# EAGLE library part OPL-EAGLE-LIBRARY_ADXL335 (library baseboard)
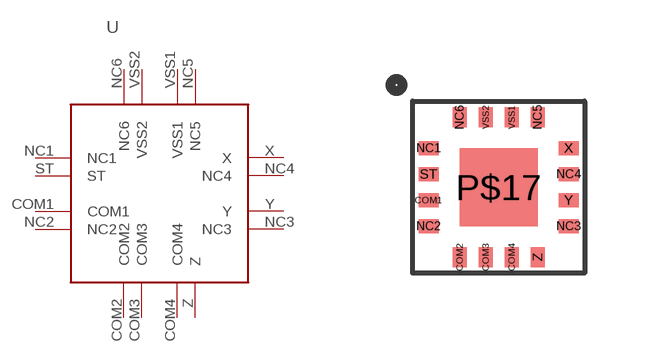
[diagram p0: symbol with the pads of OPL-EAGLE-LIBRARY_ADXL335; footprint OPL-EAGLE-LIBRARY_ADXL335]

Designator prefix U

## OPL-EAGLE-LIBRARY_ADXL335  [OPL-EAGLE-LIBRARY_ADXL335]
COM1  COM1
COM2  COM2
COM3  COM3
COM4  COM4
NC1  NC1
NC2  NC2
NC3  NC3
NC4  NC4
NC5  NC5
NC6  NC6
ST  ST
VSS1  VSS1
VSS2  VSS2
X  X
Y  Y
Z  Z

## Footprint OPL-EAGLE-LIBRARY_ADXL335 (pad centres in mm)
smd 0.5 x 0.35: COM1 -1.75,-0.325; NC1 -1.75,0.975; NC2 -1.75,-0.975; NC3 1.75,-0.975; NC4 1.75,0.325; ST -1.75,0.325; X 1.75,0.975; Y 1.75,-0.325
smd 0.35 x 0.5: COM2 -0.975,-1.75; COM3 -0.325,-1.75; COM4 0.325,-1.75; NC5 0.975,1.75; NC6 -0.975,1.75; VSS1 0.325,1.75; VSS2 -0.325,1.75; Z 0.975,-1.75
smd 1.95 x 1.95: P$17 0,0